# EAGLE library part 10051922-1210ELF (library FCI-tkr)
FFC/FPC CONNECTOR, 12POS, 1ROW
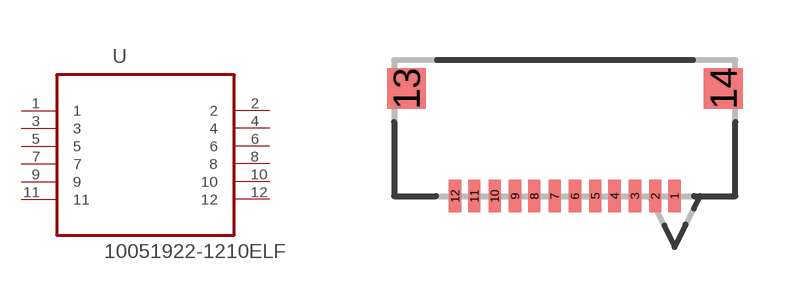
[diagram p1: symbol with the pads of FCI_10051922-1210ELF; footprint FCI_10051922-1210ELF]

Designator prefix U

## 10051922-1210ELF (MPN: 10051922-1210ELF; OC_FARNELL: 1835843; OC_NEWARK: 95M0575; PACKAGE: CONNECTOR-12POS; SUPPLIER: FCI)  [FCI_10051922-1210ELF]
1  1  pas
2  2  pas
3  3  pas
4  4  pas
5  5  pas
6  6  pas
7  7  pas
8  8  pas
9  9  pas
10  10  pas
11  11  pas
12  12  pas

## Footprint FCI_10051922-1210ELF (pad centres in mm)
smd 0.305 x 0.813: 1 2.743,1.702; 2 2.261,1.702; 3 1.753,1.702; 4 1.245,1.702; 5 0.762,1.702; 6 0.254,1.702; 7 -0.254,1.702; 8 -0.762,1.702; 9 -1.245,1.702; 10 -1.753,1.702; 11 -2.261,1.702; 12 -2.743,1.702
smd 0.965 x 1.016: 13 -3.962,4.394; 14 3.962,4.394